# EAGLE library part ELM327SM (library ELM)
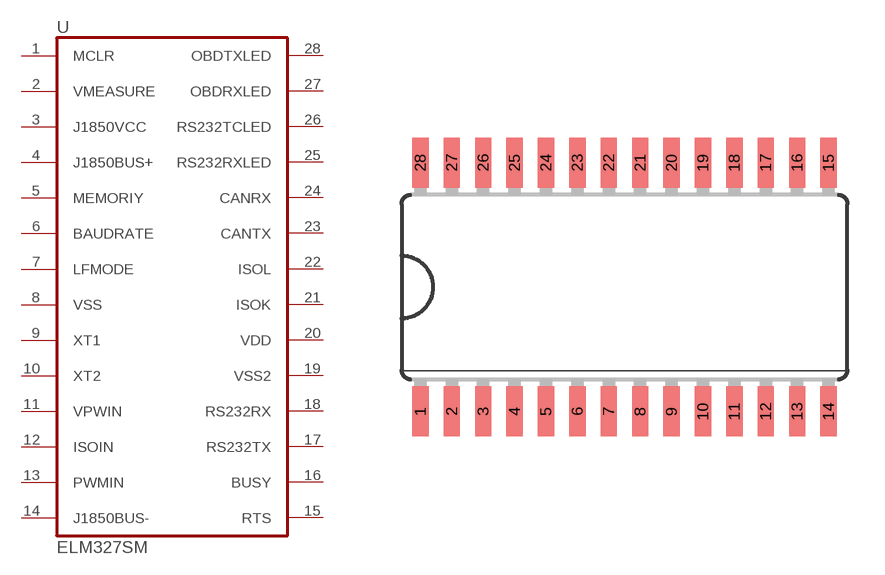
[diagram p7: symbol with the pads of ELM327SM; footprint ELM327SM]

Designator prefix -

## ELM327SM  [ELM327SM]
1  MCLR
2  VMEASURE
3  J1850VCC
4  J1850BUS+
5  MEMORIY
6  BAUDRATE
7  LFMODE
8  VSS
9  XT1
10  XT2
11  VPWIN
12  ISOIN
13  PWMIN
14  J1850BUS-
15  RTS
16  BUSY
17  RS232TX
18  RS232RX
19  VSS2
20  VDD
21  ISOK
22  ISOL
23  CANTX
24  CANRX
25  RS232RXLED
26  RS232TCLED
27  OBDRXLED
28  OBDTXLED

## Footprint ELM327SM (pad centres in mm)
smd 0.66 x 2.032: 1 -9.525,0.051; 2 -8.255,0.051; 3 -6.985,0.051; 4 -5.715,0.051; 5 -4.445,0.051; 6 -3.175,0.051; 7 -1.905,0.051; 8 -0.635,0.051; 9 0.635,0.051; 10 1.905,0.051; 11 3.175,0.051; 12 4.445,0.051; 13 5.715,0.051; 14 6.985,0.051; 15 6.985,10.109; 16 5.715,10.109; 17 4.445,10.109; 18 3.175,10.109; 19 1.905,10.109; 20 0.635,10.109; 21 -0.635,10.109; 22 -1.905,10.109; 23 -3.175,10.109; 24 -4.445,10.109; 25 -5.715,10.109; 26 -6.985,10.109; 27 -8.255,10.109; 28 -9.525,10.109